# EAGLE library part PHOBOS-BOARDS_ARDUINO_MEGA_R3 (library PHOBOS-lbr)
Arduino Mega R3 ATmega2560 R3 compatible footprint. SparkFun Products: Arduino Mega 2560 R3 <https://www.sparkfun.com/products/11061>
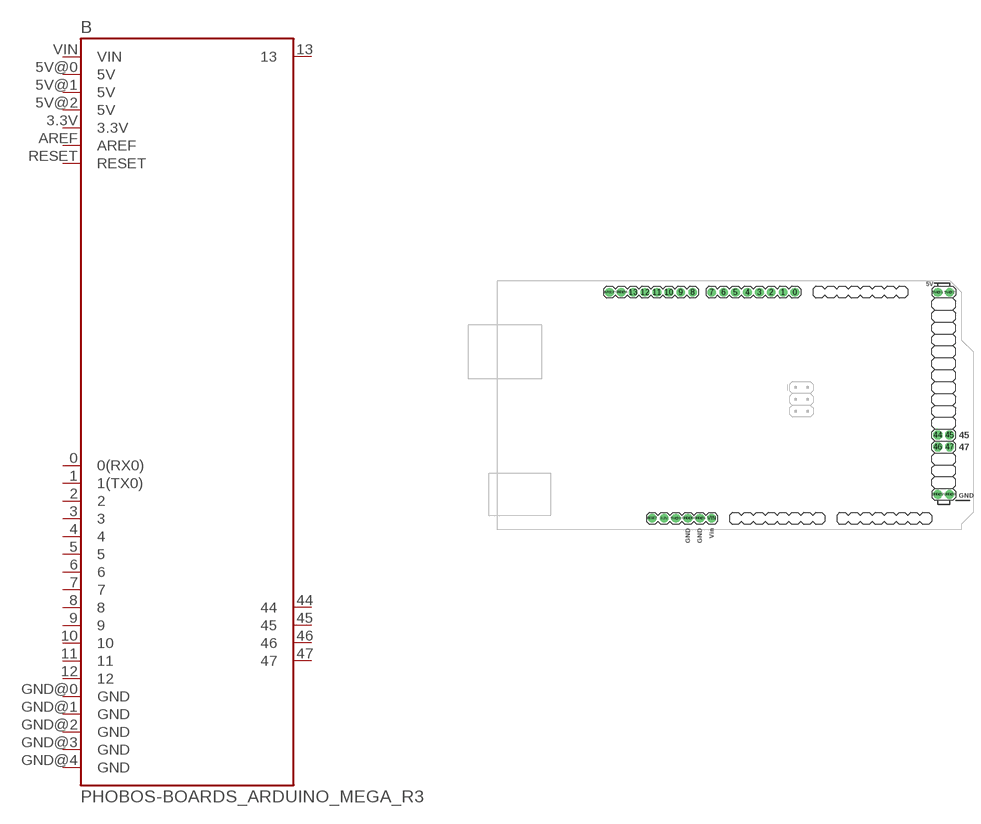
[diagram p0: symbol with the pads of PHOBOS-BOARDS_ARDUINO_MEGA; footprint PHOBOS-BOARDS_ARDUINO_MEGA]

Designator prefix B

## PHOBOS-BOARDS_ARDUINO_MEGA_R3FULL  [PHOBOS-BOARDS_ARDUINO_MEGA]
0  0(RX0)
1  1(TX0)
2  2
3  3
3.3V  3.3V
4  4
5  5
5V@0  5V
5V@1  5V
5V@2  5V
6  6
7  7
8  8
9  9
10  10
11  11
12  12
13  13
44  44
45  45
46  46
47  47
AREF  AREF
GND@0  GND
GND@1  GND
GND@2  GND
GND@3  GND
GND@4  GND
RESET  RESET
VIN  VIN

## Footprint PHOBOS-BOARDS_ARDUINO_MEGA (pad centres in mm)
Arduino MEGA R3 footprint Specifications: Pin count:82 Area:4x2.15 in Example device(s): Arduino Mega R3
drill 1.016 pad 1.88: 0 13.97,24.13; 1 11.43,24.13; 2 8.89,24.13; 3 6.35,24.13; 3.3V -13.97,-24.13; 4 3.81,24.13; 5 1.27,24.13; 5V@0 -11.43,-24.13; 5V@1 44.45,24.13; 5V@2 46.99,24.13; 6 -1.27,24.13; 7 -3.81,24.13; 8 -7.874,24.13; 9 -10.414,24.13; 10 -12.954,24.13; 11 -15.494,24.13; 12 -18.034,24.13; 13 -20.574,24.13; AREF -25.654,24.13; GND@0 -8.89,-24.13; GND@1 -6.35,-24.13; GND@2 44.45,-19.05; GND@3 46.99,-19.05; GND@4 -23.114,24.13; RESET -16.51,-24.13; VIN -3.81,-24.13
drill 1.016 pad 1.88 octagon: 44 44.45,-6.35; 45 46.99,-6.35; 46 44.45,-8.89; 47 46.99,-8.89